# Altium schematic symbol library Misc.SCHLIB: 30 symbols
Pins are listed as number, name and electrical type; pins without a type are passive.

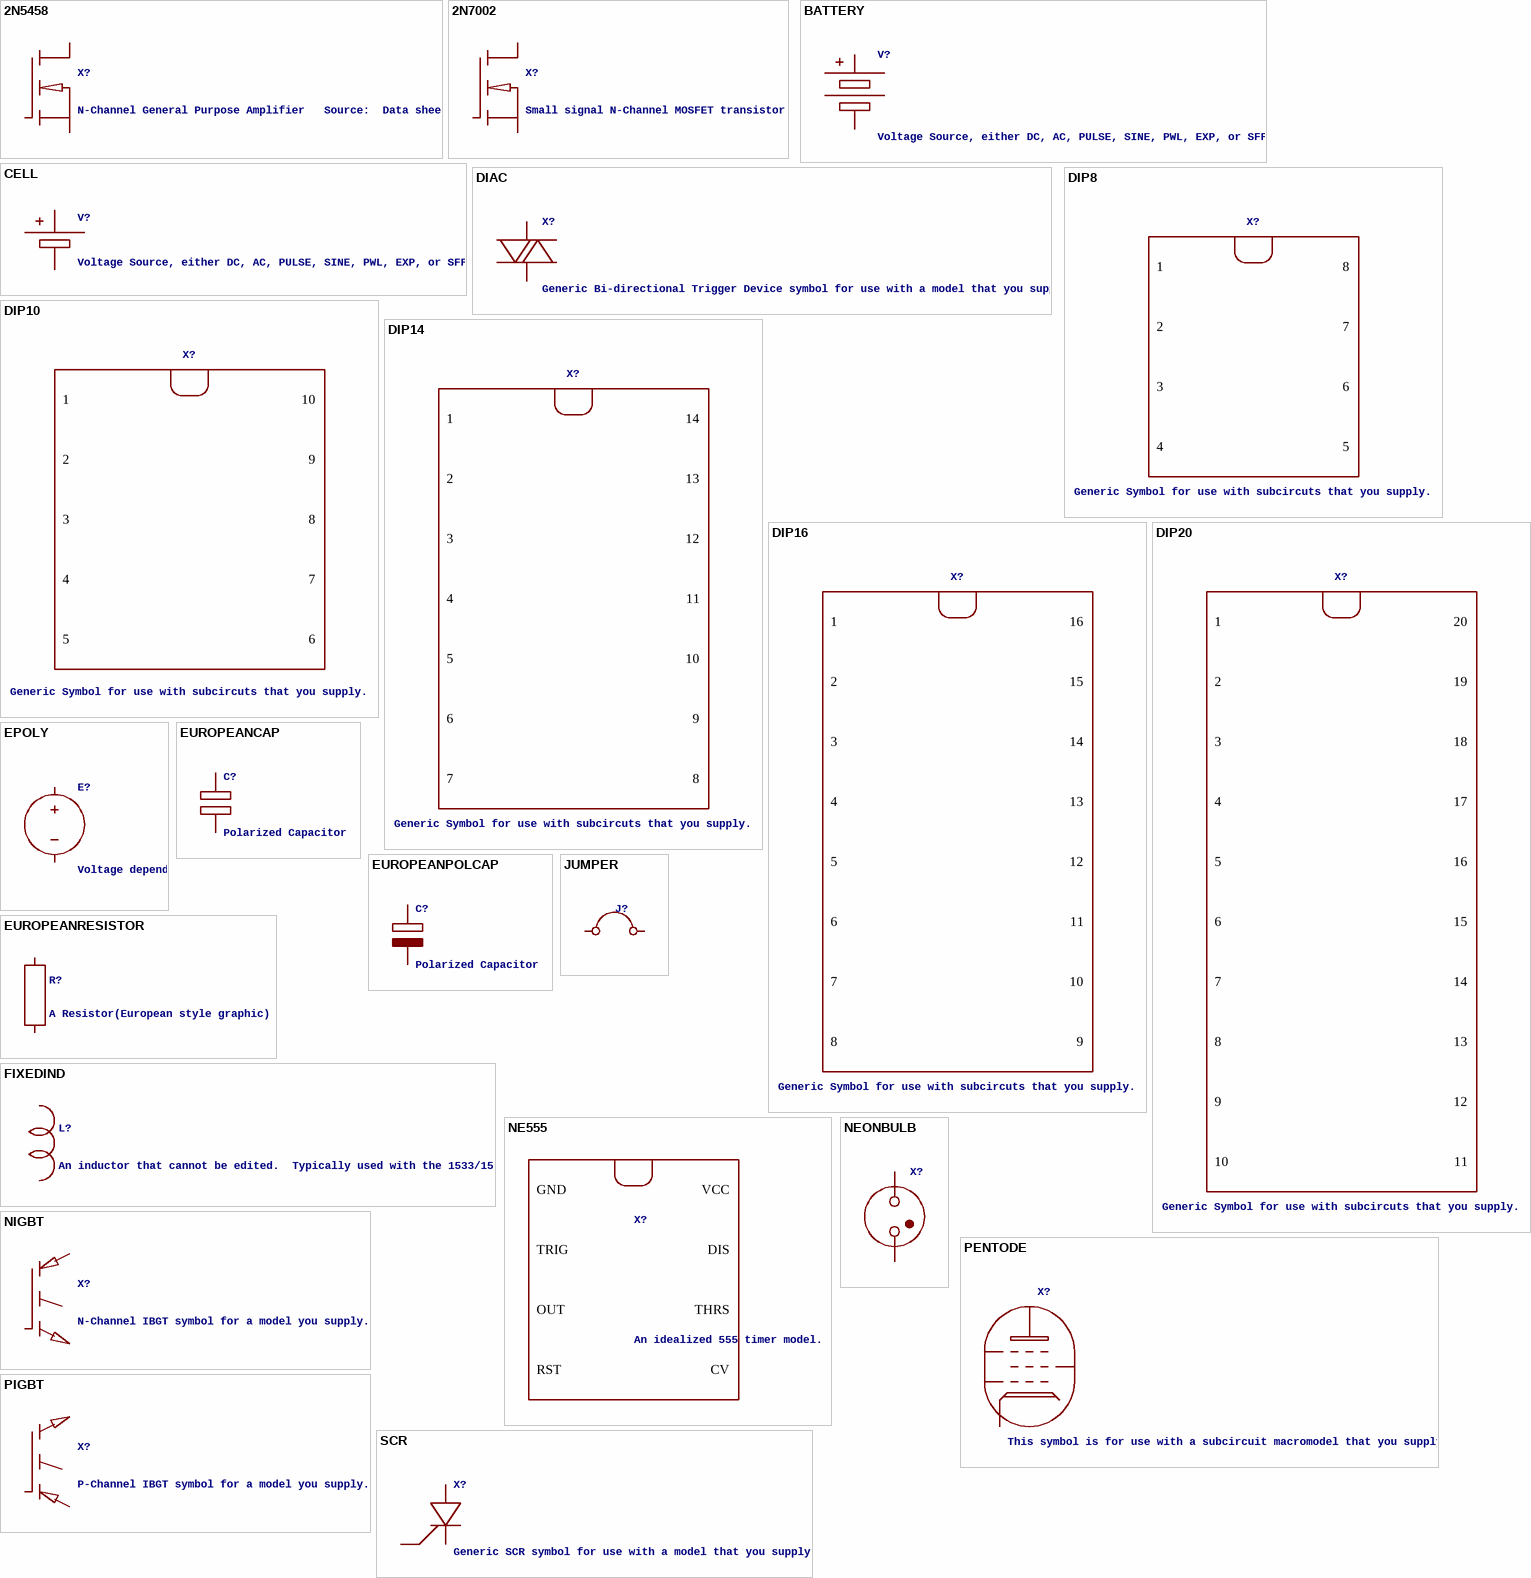
[diagram p0: symbols 2N5458 to SCR]

## 2N5458
designator X?, comment N-Channel General Purpose Amplifier   Source:  Data sheet
footprint SOT23
pins: 1 D, 2 S, 3 G

## 2N7002
designator X?, comment Small signal N-Channel MOSFET transistor
VALUE2: 2N7002; SPICEMODEL: 2N7002.mod
pins: ?1 D, ?2 G, ?3 S

## BATTERY
designator V?, comment Voltage Source, either DC, AC, PULSE, SINE, PWL, EXP, or SFFM
footprint 3V60R
pins: + +@1 +, -

## CELL
designator V?, comment Voltage Source, either DC, AC, PULSE, SINE, PWL, EXP, or SFFM
pins: ?1 +, ?2 -

## DIAC
designator X?, comment Generic Bi-directional Trigger Device symbol for use with a model that you supply
footprint BR210S
pins: T1 +, T2 -

## DIP8
designator X?, comment Generic Symbol for use with subcircuts that you supply.
pins: ?1 1, ?2 2, ?3 3, ?4 4, ?5 5, ?6 6, ?7 7, ?8 8

## DIP10
designator X?, comment Generic Symbol for use with subcircuts that you supply.
pins: ?1 1, ?2 2, ?3 3, ?4 4, ?5 5, ?6 6, ?7 7, ?8 8, ?9 9, ?10 10

## DIP14
designator X?, comment Generic Symbol for use with subcircuts that you supply.
pins: ?1 1, ?2 2, ?3 3, ?4 4, ?5 5, ?6 6, ?7 7, ?8 8, ?9 9, ?10 10, ?11 11, ?12 12, ?13 13, ?14 14

## DIP16
designator X?, comment Generic Symbol for use with subcircuts that you supply.
pins: ?1 1, ?2 2, ?3 3, ?4 4, ?5 5, ?6 6, ?7 7, ?8 8, ?9 9, ?10 10, ?11 11, ?12 12, ?13 13, ?14 14, ?15 15, ?16 16

## DIP20
designator X?, comment Generic Symbol for use with subcircuts that you supply.
pins: ?1 1, ?2 2, ?3 3, ?4 4, ?5 5, ?6 6, ?7 7, ?8 8, ?9 9, ?10 10, ?11 11, ?12 12, ?13 13, ?14 14, ?15 15, ?16 16, ?17 17, ?18 18, ?19 19, ?20 20

## EPOLY
designator E?, comment Voltage dependent voltage source with two terminals.  Useful for drafting schematic generating archaic voltage controlled syntax.
pins: ?1 +, ?2 -

## EUROPEANCAP
designator C?, comment Polarized Capacitor
pins: ?1 A, ?2 B

## EUROPEANPOLCAP
designator C?, comment Polarized Capacitor
pins: ?1 A, ?2 B

## EUROPEANRESISTOR
designator R?, comment A Resistor(European style graphic)
pins: ?1 A, ?2 B

## FIXEDIND
designator L?, comment An inductor that cannot be edited.  Typically used with the 1533/1534
DEFSUBSTRATE: noedit
pins: ?1 A, ?2 B

## JUMPER
designator J?, comment A wire jumper.  This component lets you give the same net two different names  (value not drawn)
footprint 05
pins: 1 +, 2 -

## NE555
designator X?, comment An idealized 555 timer model.
footprint SOIC8
pins: 1 GND, 2 TRIG, 3 OUT, 4 RST, 5 CV, 6 THRS, 7 DIS, 8 VCC

## NEONBULB
designator X?, comment Parameterized Neon Bulb  (value not drawn)
MODELFILE: neonbulb.sub; VALUE2: Vstrike=100 Vhold=50; SPICELINE: Zon=2K Ihold=200u; SPICELINE2: Tau=100u; SPICEMODEL: neonbulb
pins: ?1 V+, ?2 V-

## NIGBT
designator X?, comment N-Channel IBGT symbol for a model you supply.
pins: ?1 C, ?2 G, ?3 E

## PENTODE
designator X?, comment This symbol is for use with a subcircuit macromodel that you supply.
pins: ?1 CATHODE, ?2 G1, ?3 G2, ?4 G3, ?5 ANODE

## PIGBT
designator X?, comment P-Channel IBGT symbol for a model you supply.
pins: ?1 C, ?2 G, ?3 E

## SCR
designator X?, comment Generic SCR symbol for use with a model that you supply.
pins: ?1 A, ?2 G, ?3 K

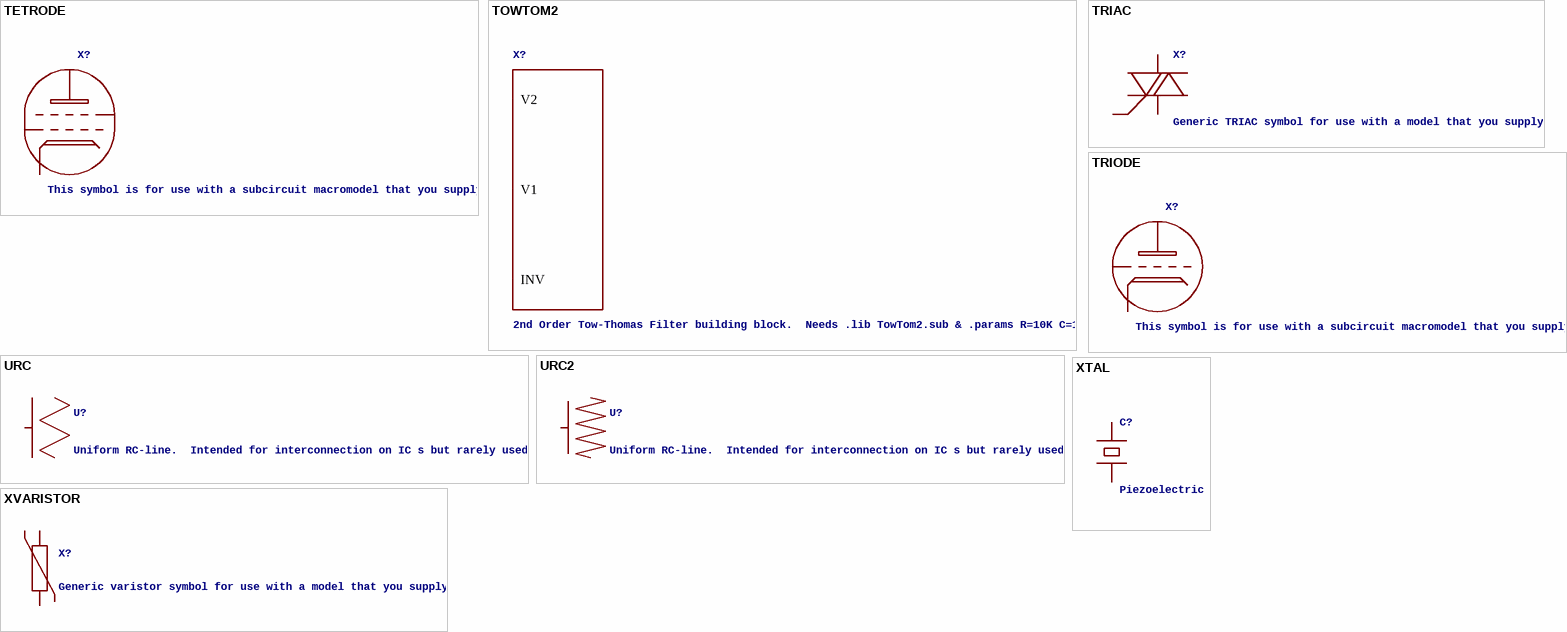
[diagram p1: symbols TETRODE to XVARISTOR]

## TETRODE
designator X?, comment This symbol is for use with a subcircuit macromodel that you supply.
pins: ?1 ANODE, ?2 SCREEN, ?3 GRID, ?4 CATHODE

## TOWTOM2
designator X?, comment 2nd Order Tow-Thomas Filter building block.  Needs .lib TowTom2.sub & .params R=10K C=160p GBW1=10Meg GBW2=15Meg Aol=100K
footprint TOWTOM2
pins: G$1INV INV, G$1V1 V1, G$1V2 V2

## TRIAC
designator X?, comment Generic TRIAC symbol for use with a model that you supply.
footprint BR220S
pins: T1 G, T2 MT1, T3 MT2

## TRIODE
designator X?, comment This symbol is for use with a subcircuit macromodel that you supply.
pins: ?1 PLATE, ?2 GRID, ?3 CATHODE

## URC
designator U?, comment Uniform RC-line.  Intended for interconnection on IC s but rarely used.'
pins: ?1 A, ?2 B, ?3 C

## URC2
designator U?, comment Uniform RC-line.  Intended for interconnection on IC s but rarely used.'
pins: ?1 A, ?2 B, ?3 C

## XTAL
designator C?, comment Piezoelectric crystal.  Set C, Lser and Cpar to set series and parallel resonances.  This is actually the same as a capacitor.
footprint HC49UP
pins: 1 A, 2 B

## XVARISTOR
designator X?, comment Generic varistor symbol for use with a model that you supply.
footprint BR210S
pins: T1 A, T2 B